# Altium schematic symbol library dumb.SchLib: 11 symbols
Pins are listed as number, name and electrical type; pins without a type are passive.

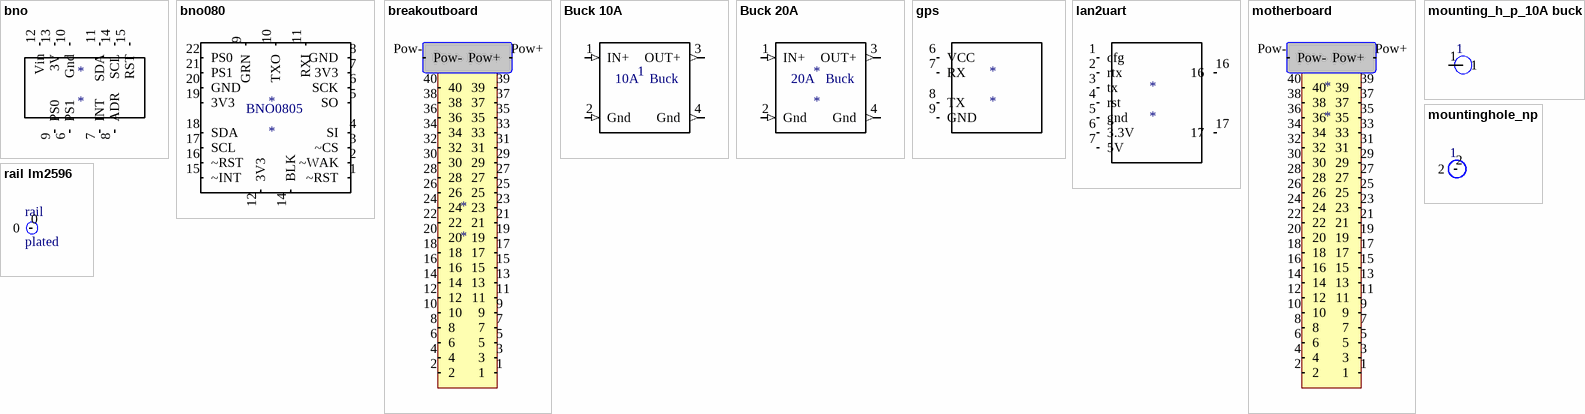
[diagram p0: symbols bno to rail lm2596]

## bno
designator *
footprint BNO
pins: 6 PS1, 7 INT, 8 ADR, 9 PS0, 10 Gnd, 11 SDA, 12 Vin, 13 3V, 14 SCL, 15 RST

## bno080
designator *
pins: 1 ~RST, 2 ~WAK, 3 ~CS, 4 SI, 5 SO, 6 SCK, 7 3V3, 8 GND, 9 GRN, 10 TXO, 11 RXI, 12 3V3, 14 BLK, 15 ~INT, 16 ~RST, 17 SCL, 18 SDA, 19 3V3, 20 GND, 21 PS1, 22 PS0
text: BNO0805

## breakoutboard
designator *
footprint breakoutboard connections
pins: 1, 2, 3, 4, 5, 6, 7, 8, 9, 10, 11, 12, 13, 14, 15, 16, 17, 18, 19, 20, 21, 22, 23, 24, 25, 26, 27, 28, 29, 30, 31, 32, 33, 34, 35, 36, 37, 38, 39, 40, Pow+, Pow-

## Buck 10A
designator 1
footprint Buck 10A; pin to pad 1>20 2>21 3>23 4>22
pins: 1 IN+ (in), 2 Gnd (in), 3 OUT+ (out), 4 Gnd (out)
text: 10A   Buck

## Buck 20A
designator *
footprint Buck 20A; pin to pad 1>24 2>26 3>25 4>27
pins: 1 IN+ (in), 2 Gnd (in), 3 OUT+ (out), 4 Gnd (out)
text: 20A   Buck

## gps
designator *
footprint gps; pin to pad 6>39 7>40 8>41 9>42
pins: 6 VCC, 7 RX, 8 TX, 9 GND

## lan2uart
designator *
footprint lan2uart
pins: 1 cfg, 2 rtx, 3 tx, 4 rst, 5 gnd, 6 3.3V, 7 5V, 16, 17

## motherboard
designator *
footprint motherboard_connection
pins: 1, 2, 3, 4, 5, 6, 7, 8, 9, 10, 11, 12, 13, 14, 15, 16, 17, 18, 19, 20, 21, 22, 23, 24, 25, 26, 27, 28, 29, 30, 31, 32, 33, 34, 35, 36, 37, 38, 39, 40, Pow+, Pow-

## mounting_h_p_10A buck
designator 1  (value not drawn)
footprint mounting_h_p 10A buck
pins: 1 (io)

## mountinghole_np
designator 1  (value not drawn)
footprint np_mountinghole
pins: 2 (power)

## rail lm2596
designator rail, comment plated  (mechanical)
footprint Rail_lm2596
pins: 0